# Altium footprint library M2_2280_MKey.PcbLib: 1 footprints
Each footprint in its own frame and in the unit in brackets; x right, y up, seen from the top. Pads: shape width x height; smd on the part's side, far side on the other; paste and mask are expansions set on the pad; w line width, h text height; cw(c..) or ccw(c..) is an arc to the next point about the centre after c.
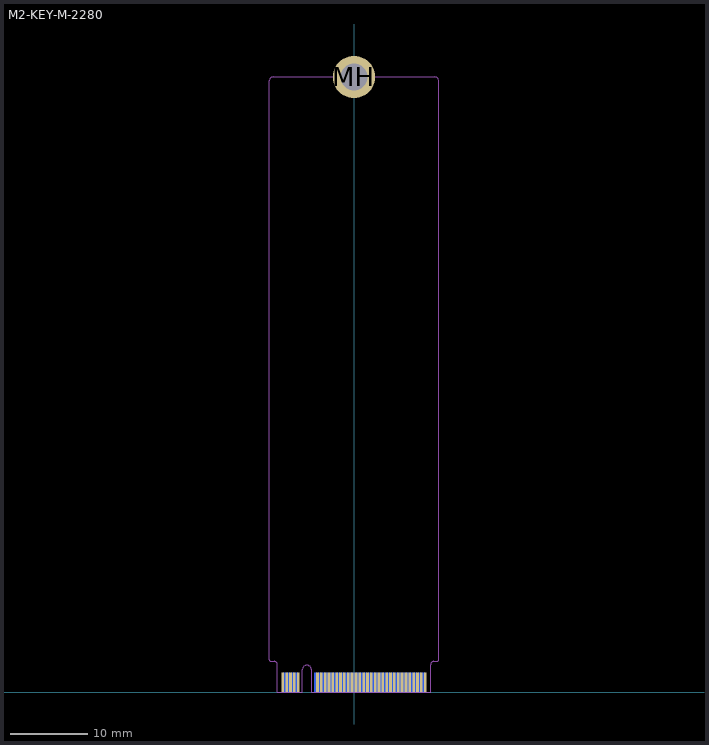
[diagram p0: the footprint, top view; thin cyan lines are the x and y axes]

## M2-KEY-M-2280 [mm]
pads (68):
  rect 0.35x2.5 smd: 1(9.25,1.3) 3(8.75,1.3) 5(8.25,1.3) 7(7.75,1.3) 9(7.25,1.3) 11(6.75,1.3) 13(6.25,1.3) 15(5.75,1.3) 17(5.25,1.3) 19(4.75,1.3) 21(4.25,1.3) 23(3.75,1.3) 25(3.25,1.3) 27(2.75,1.3) 29(2.25,1.3) 31(1.75,1.3) 33(1.25,1.3) 35(0.75,1.3) 37(0.25,1.3) 39(-0.25,1.3) 41(-0.75,1.3) 43(-1.25,1.3) 45(-1.75,1.3) 47(-2.25,1.3) 49(-2.75,1.3) 51(-3.25,1.3) 53(-3.75,1.3) 55(-4.25,1.3) 57(-4.75,1.3) 67(-7.25,1.3) 69(-7.75,1.3) 71(-8.25,1.3) 73(-8.75,1.3) 75(-9.25,1.3)
  rect 0.35x2.5 smd far side: 2(9,1.3) 4(8.5,1.3) 6(8,1.3) 8(7.5,1.3) 10(7,1.3) 12(6.5,1.3) 14(6,1.3) 16(5.5,1.3) 18(5,1.3) 20(4.5,1.3) 22(4,1.3) 24(3.5,1.3) 26(3,1.3) 28(2.5,1.3) 30(2,1.3) 32(1.5,1.3) 34(1,1.3) 36(0.5,1.3) 38(0,1.3) 40(-0.5,1.3) 42(-1,1.3) 44(-1.5,1.3) 46(-2,1.3) 48(-2.5,1.3) 50(-3,1.3) 52(-3.5,1.3) 54(-4,1.3) 56(-4.5,1.3) 58(-5,1.3) 68(-7.5,1.3) 70(-8,1.3) 72(-8.5,1.3) 74(-9,1.3)
  round 5.5 hole 3.5: MH(0,80)
Mechanical 13:
  lines w0.1: -11,4.2 ccw(c-10.8,4.2) -10.8,4 -10.4,4 cw(c-10.4,3.55) -9.95,3.55 -9.95,0 -6.725,0 -6.725,2.9 cw(c-6.125,2.9) -5.525,2.9 -5.525,0 6.225,0 9.95,0 9.95,3.55 cw(c10.4,3.55) 10.4,4 10.8,4 ccw(c10.8,4.2) 11,4.2 11,79.5 ccw(c10.5,79.5) 10.5,80 -10.5,80 ccw(c-10.5,79.5) -11,79.5 -11,4.2
  text "M" at -6.583,3.75 h1
  text "TOP" at -1.983,74.35 h1